# Altium schematic symbol library CL21A106KOQNNNE.SchLib: 2 symbols
Pins are listed as number, name and electrical type; pins without a type are passive.

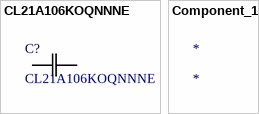
[diagram p0: symbols CL21A106KOQNNNE to Component_1]

## CL21A106KOQNNNE
designator C?
No Description Available; Mfr_Name: Samsung; Type: DEV; Copyright: Copyright (C) 2023 Ultra Librarian. All rights reserved.; Manufacturer_Part_Number: CL21A106KOQNNNE; RefDes: RefDes
footprint CAP_CL21_SAM
pins: 1, 2

## Component_1
designator *